# Altium schematic symbol library TPS7A4533 low-dropout regulator.schlib: 1 symbol
Pins are listed as number, name and electrical type; pins without a type are passive.

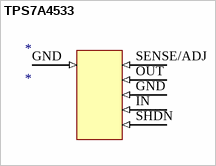
[diagram p0: symbol TPS7A4533]

## TPS7A4533
designator *
pins: GND (in), GND (in), IN (in), OUT (in), SENSE/ADJ (in), SHDN (in)